# Altium footprint library Footprint-Lib-ABahlmann-SMD.PcbLib: 105 footprints (part 5 of 7)
Each footprint in its own frame and in the unit in brackets; x right, y up, seen from the top. Pads: shape width x height; smd on the part's side, far side on the other; paste and mask are expansions set on the pad; w line width, h text height; cw(c..) or ccw(c..) is an arc to the next point about the centre after c.
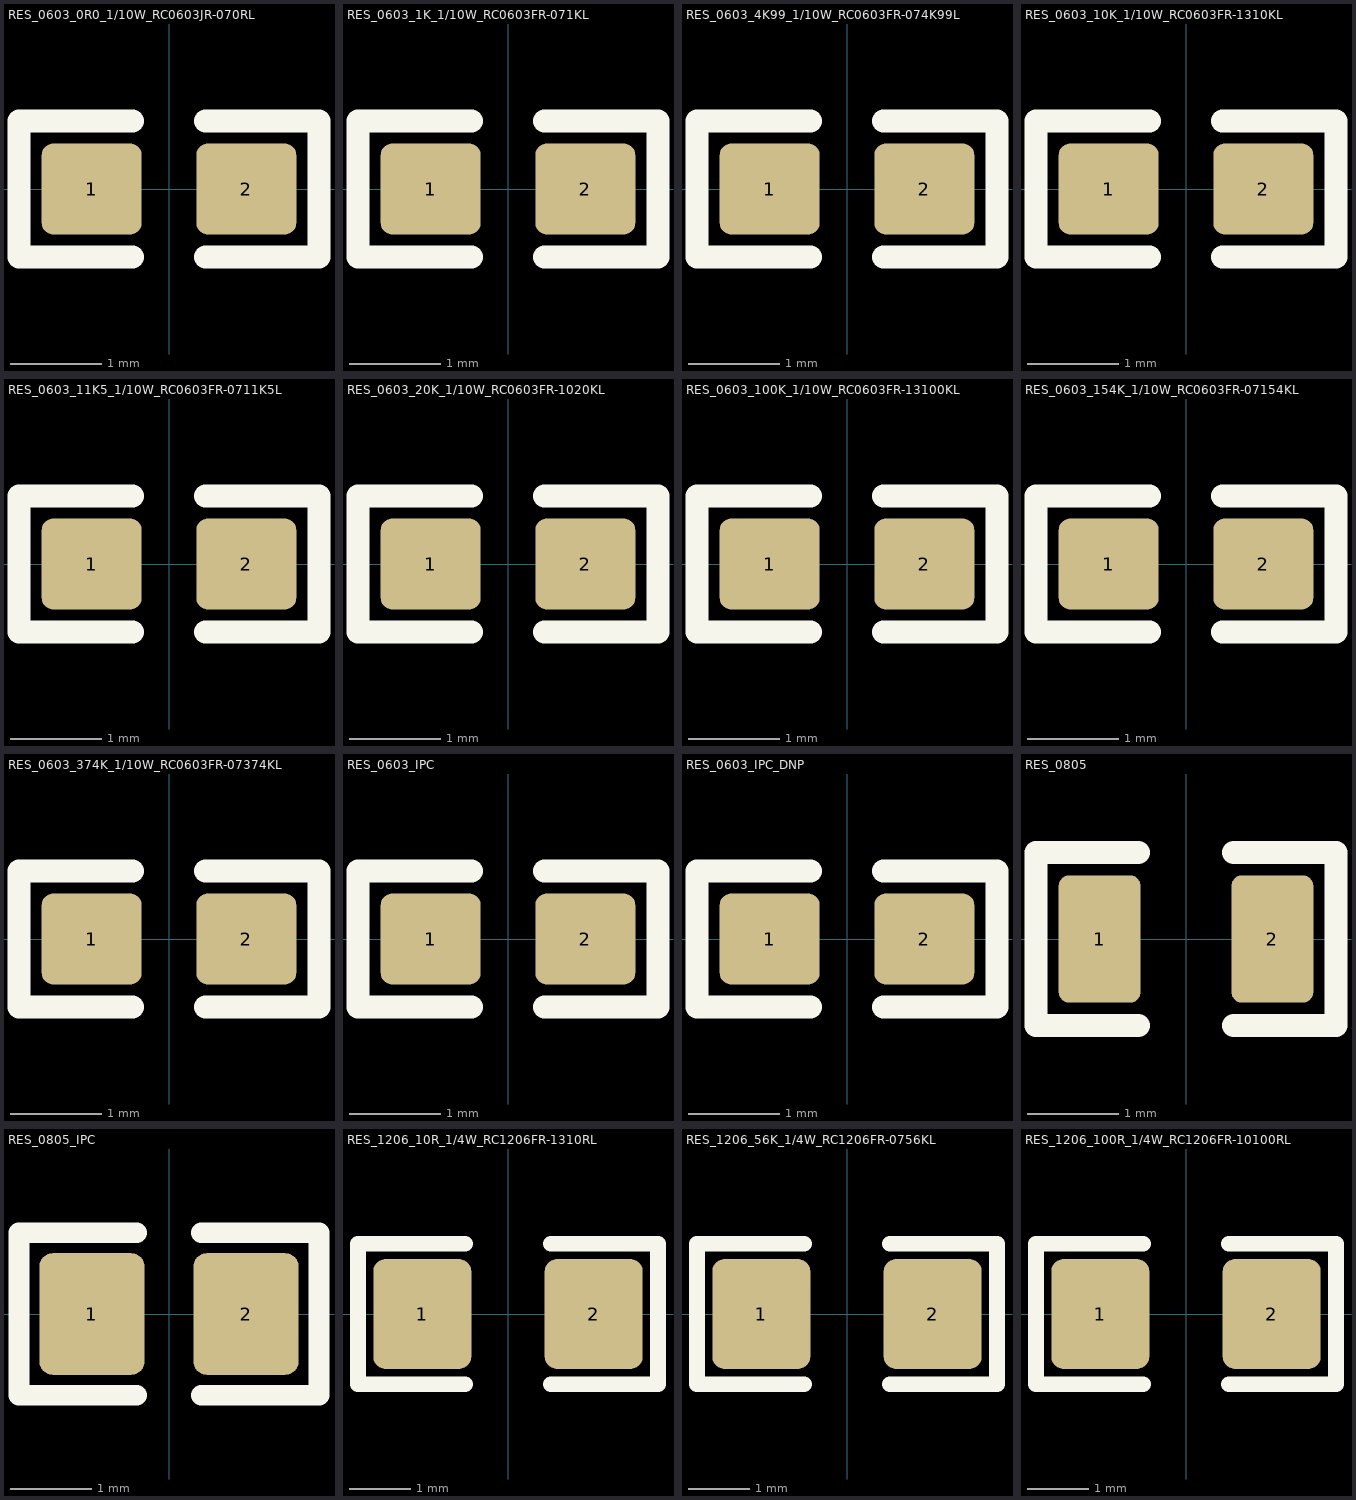
[diagram p4: the footprints below, top view; thin cyan lines are the x and y axes]

## RES_0603_0R0_1/10W_RC0603JR-070RL [mm] "0 Ohms Jumper 0.1W, 1/10W Chip Resistor 0603 (1608 Metric) Moisture Resistant Thick Film"
pads (2):
  rrect25% 1.1x1 smd: 1(-0.85,0) 2(0.85,0)
Top Overlay:
  lines w0.254: -0.4,-0.75 -1.65,-0.75 -1.65,0.75 -0.4,0.75 ; 0.4,-0.75 1.65,-0.75 1.65,0.75 0.4,0.75
3D body "RES_0603.step": height 0.46, standoff 0.01, extent -0.8,-0.4 0.8,0.4

## RES_0603_1K_1/10W_RC0603FR-071KL [mm] "1 kOhms ±1% 0.1W, 1/10W Chip Resistor 0603 (1608 Metric) Moisture Resistant Thick Film"
pads (2):
  rrect25% 1.1x1 smd: 1(-0.85,0) 2(0.85,0)
Top Overlay:
  lines w0.254: -0.4,-0.75 -1.65,-0.75 -1.65,0.75 -0.4,0.75 ; 0.4,-0.75 1.65,-0.75 1.65,0.75 0.4,0.75
3D body "RES_0603.step": height 0.46, standoff 0.01, extent -0.8,-0.4 0.8,0.4

## RES_0603_4K99_1/10W_RC0603FR-074K99L [mm] "4.99 kOhms ±1% 0.1W, 1/10W Chip Resistor 0603 (1608 Metric) Moisture Resistant Thick Film"
pads (2):
  rrect25% 1.1x1 smd: 1(-0.85,0) 2(0.85,0)
Top Overlay:
  lines w0.254: -0.4,-0.75 -1.65,-0.75 -1.65,0.75 -0.4,0.75 ; 0.4,-0.75 1.65,-0.75 1.65,0.75 0.4,0.75
3D body "RES_0603.step": height 0.46, standoff 0.01, extent -0.8,-0.4 0.8,0.4

## RES_0603_10K_1/10W_RC0603FR-1310KL [mm] "10 kOhms ±1% 0.1W, 1/10W Chip Resistor 0603 (1608 Metric) Moisture Resistant Thick Film"
pads (2):
  rrect25% 1.1x1 smd: 1(-0.85,0) 2(0.85,0)
Top Overlay:
  lines w0.254: -0.4,-0.75 -1.65,-0.75 -1.65,0.75 -0.4,0.75 ; 0.4,-0.75 1.65,-0.75 1.65,0.75 0.4,0.75
3D body "RES_0603.step": height 0.46, standoff 0.01, extent -0.8,-0.4 0.8,0.4

## RES_0603_11K5_1/10W_RC0603FR-0711K5L [mm] "11.5 kOhms ±1% 0.1W, 1/10W Chip Resistor 0603 (1608 Metric) Moisture Resistant Thick Film"
pads (2):
  rrect25% 1.1x1 smd: 1(-0.85,0) 2(0.85,0)
Top Overlay:
  lines w0.254: -0.4,-0.75 -1.65,-0.75 -1.65,0.75 -0.4,0.75 ; 0.4,-0.75 1.65,-0.75 1.65,0.75 0.4,0.75
3D body "RES_0603.step": height 0.46, standoff 0.01, extent -0.8,-0.4 0.8,0.4

## RES_0603_20K_1/10W_RC0603FR-1020KL [mm] "20 kOhms ±1% 0.1W, 1/10W Chip Resistor 0603 (1608 Metric) Moisture Resistant Thick Film"
pads (2):
  rrect25% 1.1x1 smd: 1(-0.85,0) 2(0.85,0)
Top Overlay:
  lines w0.254: -0.4,-0.75 -1.65,-0.75 -1.65,0.75 -0.4,0.75 ; 0.4,-0.75 1.65,-0.75 1.65,0.75 0.4,0.75
3D body "RES_0603.step": height 0.46, standoff 0.01, extent -0.8,-0.4 0.8,0.4

## RES_0603_100K_1/10W_RC0603FR-13100KL [mm] "100 kOhms ±1% 0.1W, 1/10W Chip Resistor 0603 (1608 Metric) Moisture Resistant Thick Film"
pads (2):
  rrect25% 1.1x1 smd: 1(-0.85,0) 2(0.85,0)
Top Overlay:
  lines w0.254: -0.4,-0.75 -1.65,-0.75 -1.65,0.75 -0.4,0.75 ; 0.4,-0.75 1.65,-0.75 1.65,0.75 0.4,0.75
3D body "RES_0603.step": height 0.46, standoff 0.01, extent -0.8,-0.4 0.8,0.4

## RES_0603_154K_1/10W_RC0603FR-07154KL [mm] "154 kOhms ±1% 0.1W, 1/10W Chip Resistor 0603 (1608 Metric) Moisture Resistant Thick Film"
pads (2):
  rrect25% 1.1x1 smd: 1(-0.85,0) 2(0.85,0)
Top Overlay:
  lines w0.254: -0.4,-0.75 -1.65,-0.75 -1.65,0.75 -0.4,0.75 ; 0.4,-0.75 1.65,-0.75 1.65,0.75 0.4,0.75
3D body "RES_0603.step": height 0.46, standoff 0.01, extent -0.8,-0.4 0.8,0.4

## RES_0603_374K_1/10W_RC0603FR-07374KL [mm] "374 kOhms ±1% 0.1W, 1/10W Chip Resistor 0603 (1608 Metric) Moisture Resistant Thick Film"
pads (2):
  rrect25% 1.1x1 smd: 1(-0.85,0) 2(0.85,0)
Top Overlay:
  lines w0.254: -0.4,-0.75 -1.65,-0.75 -1.65,0.75 -0.4,0.75 ; 0.4,-0.75 1.65,-0.75 1.65,0.75 0.4,0.75
3D body "RES_0603.step": height 0.46, standoff 0.01, extent -0.8,-0.4 0.8,0.4

## RES_0603_IPC [mm]
pads (2):
  rrect25% 1.1x1 smd: 1(-0.85,0) 2(0.85,0)
Top Overlay:
  lines w0.254: -0.4,-0.75 -1.65,-0.75 -1.65,0.75 -0.4,0.75 ; 0.4,-0.75 1.65,-0.75 1.65,0.75 0.4,0.75
3D body "RES_0603.step": height 0.46, standoff 0.01, extent -0.8,-0.4 0.8,0.4

## RES_0603_IPC_DNP [mm]
pads (2):
  rrect25% 1.1x1 smd: 1(-0.85,0) 2(0.85,0)
Top Overlay:
  lines w0.254: -0.4,-0.75 -1.65,-0.75 -1.65,0.75 -0.4,0.75 ; 0.4,-0.75 1.65,-0.75 1.65,0.75 0.4,0.75

## RES_0805 [mm] "Link for footprints (Non-IPC): https://www.circuithub.com/post/recommended-footprints-for-discrete-components"
pads (2):
  rrect25% 0.9x1.4 smd: 1(-0.95,0) 2(0.95,0)
Top Overlay:
  lines w0.254: -0.525,-0.95 -1.65,-0.95 -1.65,0.95 -0.525,0.95 ; 0.525,-0.95 1.65,-0.95 1.65,0.95 0.525,0.95
3D body "RES_0805.step": height 0.61, standoff 0.01, extent -1,-0.625 1,0.625

## RES_0805_IPC [mm]
pads (2):
  rrect25% 1.3x1.5 smd: 1(-0.95,0) 2(0.95,0)
Top Overlay:
  lines w0.254: -0.4,-1 -1.85,-1 -1.85,1 -0.4,1 ; 0.4,-1 1.85,-1 1.85,1 0.4,1
3D body "RES_0805.step": height 0.61, standoff 0.01, extent -1,-0.625 1,0.625

## RES_1206_10R_1/4W_RC1206FR-1310RL [mm] "10 Ohms ±1% 0.25W, 1/4W Chip Resistor 1206 (3216 Metric) Moisture Resistant Thick Film"
pads (2):
  rrect25% 1.6x1.8 smd: 1(-1.4,0) 2(1.4,0)
Top Overlay:
  lines w0.254: -0.7,-1.15 -2.45,-1.15 -2.45,1.15 -0.7,1.15 ; 0.7,-1.15 2.45,-1.15 2.45,1.15 0.7,1.15
3D body "RES_1206.step": height 0.61, standoff 0.01, extent -1.6,-0.8 1.6,0.8

## RES_1206_56K_1/4W_RC1206FR-0756KL [mm] "56 kOhms ±1% 0.25W, 1/4W Chip Resistor 1206 (3216 Metric) Moisture Resistant Thick Film"
pads (2):
  rrect25% 1.6x1.8 smd: 1(-1.4,0) 2(1.4,0)
Top Overlay:
  lines w0.254: -0.7,-1.15 -2.45,-1.15 -2.45,1.15 -0.7,1.15 ; 0.7,-1.15 2.45,-1.15 2.45,1.15 0.7,1.15
3D body "RES_1206.step": height 0.61, standoff 0.01, extent -1.6,-0.8 1.6,0.8

## RES_1206_100R_1/4W_RC1206FR-10100RL [mm] "100 Ohms ±1% 0.25W, 1/4W Chip Resistor 1206 (3216 Metric) Thick Film"
pads (2):
  rrect25% 1.6x1.8 smd: 1(-1.4,0) 2(1.4,0)
Top Overlay:
  lines w0.254: -0.7,-1.15 -2.45,-1.15 -2.45,1.15 -0.7,1.15 ; 0.7,-1.15 2.45,-1.15 2.45,1.15 0.7,1.15
3D body "RES_1206.step": height 0.61, standoff 0.01, extent -1.6,-0.8 1.6,0.8